# Altium footprint library KN2CLib.PcbLib: 180 footprints (part 7 of 12)
Each footprint in its own frame and in the unit in brackets; x right, y up, seen from the top. Pads: shape width x height; smd on the part's side, far side on the other; paste and mask are expansions set on the pad; w line width, h text height; cw(c..) or ccw(c..) is an arc to the next point about the centre after c.
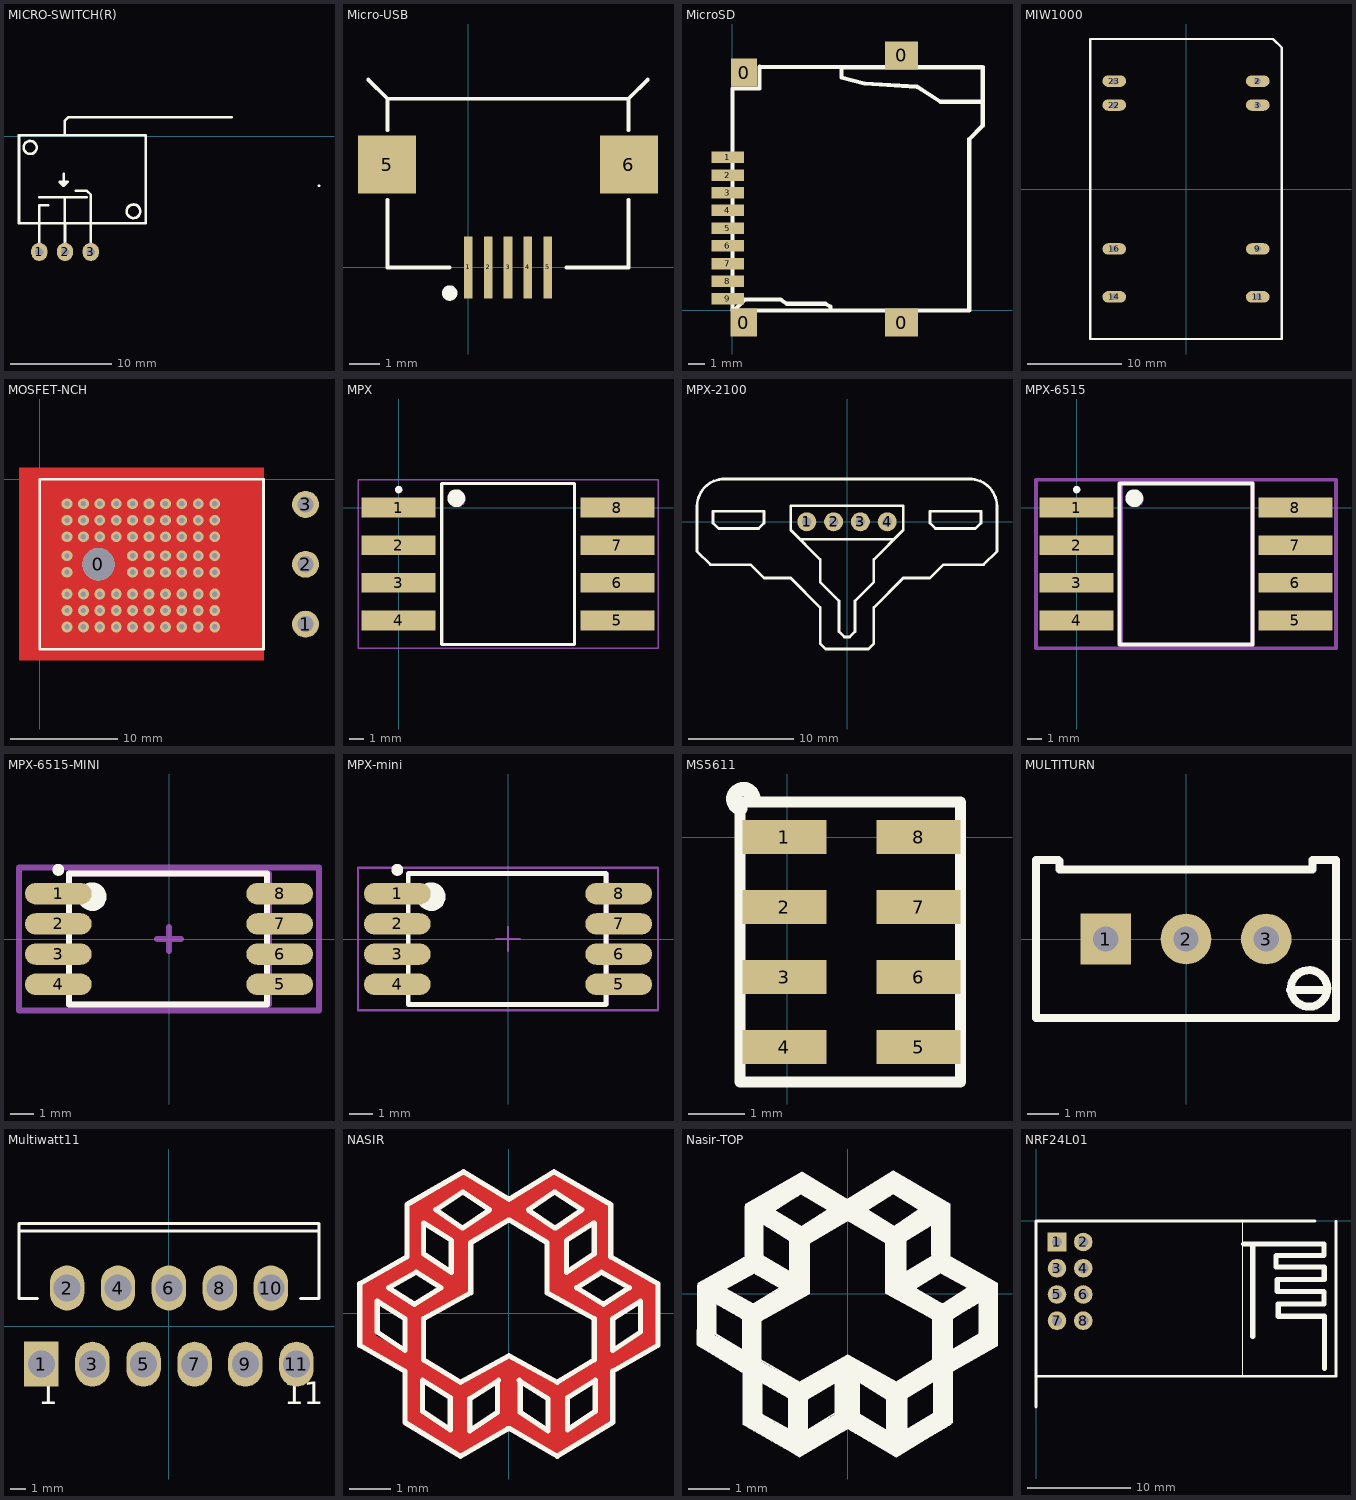
[diagram p6: the footprints below, top view; thin cyan lines are the x and y axes]

## MICRO-SWITCH(R) [mm]
pads (3):
  oval 1.6x1.8 hole 0.8: 1(-53.1,-11.4) 2(-50.56,-11.4) 3(-48.02,-11.4)
Top Layer:
  lines w0.254: -55.1,0.1 -55.1,0.1
Top Overlay:
  circle w0.254: c-43.8,-7.4 r0.671
  circle w0.254: c-54,-1.1 r0.64
  lines w0.254: -53.1,-11.4 -53.1,-8.6 -53.1,-8.2 -53.1,-6.8 -52.2,-6.8 ; -53.1,-6 -50.5,-6 ; -50.7,-3.7 -50.7,-4.9 ; -50.6,-8.6 -50.6,-7.8 -50.6,-6.1 -50.5,-6 ; -50.6,0.1 -50.6,1.5 -50.2,1.9 -34.1,1.9 ; -50.56,-11.4 -50.56,-8.76 ; -49.5,-5.38 -48.4,-5.38 -48.02,-5.76 -48.02,-8.62 -48.02,-11.4 ; -48.4,-6 -50.5,-6 ; -50.7,-4.9 -50.7,-4.9 ; -50.7,-4.9 -51.1,-4.5 -50.3,-4.5 -50.7,-4.9 ; -55.1,-8.6 -55.1,0.1 -42.6,0.1 -42.6,-8.6 -55.1,-8.6 ; -25.5,-4.9 -25.5,-4.9

## Micro-USB [mm]
pads (7):
  rect 0.279x2.032 smd: 1(0,0) 2(0.65,0) 3(1.3,0) 4(1.95,0) 5(2.6,0)
  rect 1.9x1.9 smd: 5(-2.65,3.358) 6(5.25,3.358)
Top Overlay:
  circle w0.25: c-0.605,-0.84 r0.125
  lines w0.127: -3.267,6.138 -2.637,5.508 -2.637,4.492 ; -2.637,0 -2.637,2.206 ; -2.6,0 -0.605,0 ; -2.6,5.508 5.2,5.508 ; 3.205,0 5.2,0 ; 5.237,0 5.237,2.206 ; 5.237,4.492 5.237,5.508 5.867,6.138

## MicroSD [mm]
pads (13):
  rect 1.6x1.7 smd: 0(0.686,-0.737) 0(0.711,14.453)
  rect 2x1.7 smd: 0(10.287,-0.737) 0(10.287,15.494)
  rect 2x0.7 smd: 1(-0.279,9.3) 2(-0.279,8.225) 3(-0.279,7.15) 4(-0.279,6.075) 5(-0.279,5) 6(-0.279,3.925) 7(-0.279,2.85) 8(-0.279,1.775) 9(-0.279,0.7)
Top Overlay:
  lines w0.254: 0,0 14.402,0 14.402,10.414 15.215,11.227 15.215,14.783 ; 0,0.002 0,13.487 1.651,13.487 1.651,14.808 ; 0.102,0.002 0.762,0.663 2.946,0.663 3.302,0.409 5.664,0.409 5.969,0.231 5.969,0.002 ; 1.651,14.8 15.2,14.8 ; 15.113,14.76 6.629,14.76 6.629,14.455 6.629,14.15 8.026,13.795 11.227,13.591 12.649,12.677 15.215,12.677
3D body: height 0.3, standoff 0, extent 0,-0.051 15.291,14.808

## MIW1000 [mm]
pads (8):
  oval 2.5x1.2 hole 0.7: 2(7.61,11.43) 3(7.61,8.89) 9(7.61,-6.35) 11(7.61,-11.43) 14(-7.61,-11.43) 16(-7.61,-6.35) 22(-7.61,8.89) 23(-7.61,11.43)
Top Overlay:
  lines w0.254: -10.15,-15.9 10.15,-15.9 10.15,14.983 9.233,15.9 -10.15,15.9 -10.15,-15.9
3D body: height 4, standoff 0, extent -10.1,-15.975 10.1,15.8

## MOSFET-NCH [mm]
pads (4):
  round 3 hole 3: 0(5.46,-7.9)
  round 2.5 hole 1.5: 1(24.7,-13.46) 2(24.7,-7.9) 3(24.7,-2.34)
via 2.54,-8.636 diameter 1 hole 0.5
via 2.54,-7.112 diameter 1 hole 0.5
via 14.732,-10.668 diameter 1 hole 0.5
via 16.256,-10.668 diameter 1 hole 0.5
via 8.636,-10.668 diameter 1 hole 0.5
via 10.16,-10.668 diameter 1 hole 0.5
via 13.208,-10.668 diameter 1 hole 0.5
via 11.684,-10.668 diameter 1 hole 0.5
via 5.588,-10.668 diameter 1 hole 0.5
via 7.112,-10.668 diameter 1 hole 0.5
via 4.064,-10.668 diameter 1 hole 0.5
via 2.54,-10.668 diameter 1 hole 0.5
via 14.732,-12.192 diameter 1 hole 0.5
via 16.256,-12.192 diameter 1 hole 0.5
via 8.636,-12.192 diameter 1 hole 0.5
via 10.16,-12.192 diameter 1 hole 0.5
via 13.208,-12.192 diameter 1 hole 0.5
via 11.684,-12.192 diameter 1 hole 0.5
via 5.588,-12.192 diameter 1 hole 0.5
via 7.112,-12.192 diameter 1 hole 0.5
via 4.064,-12.192 diameter 1 hole 0.5
via 2.54,-12.192 diameter 1 hole 0.5
via 14.732,-13.716 diameter 1 hole 0.5
via 16.256,-13.716 diameter 1 hole 0.5
via 8.636,-13.716 diameter 1 hole 0.5
via 10.16,-13.716 diameter 1 hole 0.5
via 13.208,-13.716 diameter 1 hole 0.5
via 11.684,-13.716 diameter 1 hole 0.5
via 5.588,-13.716 diameter 1 hole 0.5
via 7.112,-13.716 diameter 1 hole 0.5
via 4.064,-13.716 diameter 1 hole 0.5
via 2.54,-13.716 diameter 1 hole 0.5
via 2.54,-5.334 diameter 1 hole 0.5
via 4.064,-5.334 diameter 1 hole 0.5
via 7.112,-5.334 diameter 1 hole 0.5
via 5.588,-5.334 diameter 1 hole 0.5
via 11.684,-5.334 diameter 1 hole 0.5
via 13.208,-5.334 diameter 1 hole 0.5
via 10.16,-5.334 diameter 1 hole 0.5
via 8.636,-5.334 diameter 1 hole 0.5
via 16.256,-5.334 diameter 1 hole 0.5
via 14.732,-5.334 diameter 1 hole 0.5
via 2.54,-3.81 diameter 1 hole 0.5
via 4.064,-3.81 diameter 1 hole 0.5
via 7.112,-3.81 diameter 1 hole 0.5
via 5.588,-3.81 diameter 1 hole 0.5
via 11.684,-3.81 diameter 1 hole 0.5
via 13.208,-3.81 diameter 1 hole 0.5
via 10.16,-3.81 diameter 1 hole 0.5
via 8.636,-3.81 diameter 1 hole 0.5
via 16.256,-3.81 diameter 1 hole 0.5
via 14.732,-3.81 diameter 1 hole 0.5
via 2.54,-2.286 diameter 1 hole 0.5
via 4.064,-2.286 diameter 1 hole 0.5
via 7.112,-2.286 diameter 1 hole 0.5
via 5.588,-2.286 diameter 1 hole 0.5
via 11.684,-2.286 diameter 1 hole 0.5
via 13.208,-2.286 diameter 1 hole 0.5
via 10.16,-2.286 diameter 1 hole 0.5
via 8.636,-2.286 diameter 1 hole 0.5
via 16.256,-2.286 diameter 1 hole 0.5
via 14.732,-2.286 diameter 1 hole 0.5
via 14.732,-7.112 diameter 1 hole 0.5
via 16.256,-7.112 diameter 1 hole 0.5
via 8.636,-7.112 diameter 1 hole 0.5
via 10.16,-7.112 diameter 1 hole 0.5
via 13.208,-7.112 diameter 1 hole 0.5
via 11.684,-7.112 diameter 1 hole 0.5
via 14.732,-8.636 diameter 1 hole 0.5
via 16.256,-8.636 diameter 1 hole 0.5
via 8.636,-8.636 diameter 1 hole 0.5
via 10.16,-8.636 diameter 1 hole 0.5
via 13.208,-8.636 diameter 1 hole 0.5
via 11.684,-8.636 diameter 1 hole 0.5
Top Layer:
  rectangle: 1.27,-14.732 18.034,-1.27
  pour cut-out: 20.795,1.044 -1.915,1.044 -1.915,-16.792 20.81,-16.792 20.81,1.029
Bottom Layer:
  rectangle: 1.27,-14.732 18.034,-1.27
  pour cut-out: 0.003,-0.003 19.632,-0.003 19.632,-15.824 0,-15.824 0,-0.005
Top Overlay:
  lines w0.254: 0,-15.8 20.8,-15.8 20.8,0 0,0 0,-15.8
3D body: height 4.82, standoff 0.24, extent 0,-15.748 20.828,0

## MPX [mm] "SOP, 8-Leads, Body 10.9x10.9mm (max), Pitch 2.54mm, IPC Medium Density"
height 2.65
pads (8):
  rect 5x1.35 smd: 1(0,0) 2(0,-2.54) 3(0,-5.08) 4(0,-7.62) 5(14.8,-7.62) 6(14.8,-5.08) 7(14.8,-2.54) 8(14.8,0)
Top Overlay:
  circle w0.6: c3.9,0.64 r0.3
  circle w0.25: c0,1.225 r0.125
  lines w0.2: 2.9,-9.26 11.9,-9.26 11.9,1.64 2.9,1.64 2.9,-9.26
Mechanical 13:
  circle w0.1: c4.004,0.61 r0.5
  lines w0.1: 3.006,-9.27 11.896,-9.27 11.896,1.65 3.006,1.65 3.006,-9.27
Mechanical 15:
  lines w0.1: -2.75,-9.51 17.55,-9.51 17.55,1.89 -2.75,1.89 -2.75,-9.51
3D body: height 4.06, standoff 2.56, extent 4.445,-6.756 10.82,-0.369
3D body: height 5, standoff 0, extent 5.11,-6.045 10.084,-1.067
3D body: height 2.65, standoff 0.1, extent 2.879,-9.271 11.87,1.651

## MPX-2100 [mm]
pads (4):
  round 1.8 hole 0.9: 1(-3.81,0) 2(-1.27,0) 3(1.27,0) 4(3.81,0)
Top Overlay:
  lines w0.254: -11.684,4.064 11.557,4.064 cw(c11.62,1.46) 14.224,1.524 14.224,-2.794 ; -11.557,4.064 ccw(c-11.62,1.46) -14.224,1.524 -14.224,-2.794 -12.954,-4.064 -9.144,-4.064 -7.874,-5.334 -5.334,-5.334 -2.54,-8.128 -2.54,-11.557 -2.032,-12.065 0,-12.065 2.032,-12.065 2.54,-11.557 2.54,-8.128 5.334,-5.334 7.874,-5.334 9.144,-4.064 12.954,-4.064 ; -7.874,1.016 -7.874,-0.127 -8.382,-0.635 -12.192,-0.635 -12.7,-0.127 -12.7,1.016 ; -4.445,-1.651 4.445,-1.651 ; 7.874,1.016 7.874,-0.127 8.382,-0.635 12.192,-0.635 12.7,-0.127 12.7,1.016 ; -12.7,1.016 -8.001,1.016 -12.7,1.016 ; 12.7,1.016 8.001,1.016 12.7,1.016 ; 12.954,-4.064 14.224,-2.794 ; 12.954,-4.064 14.224,-2.794 ; -5.334,-0.762 -2.54,-3.556 -2.54,-5.715 -0.762,-7.493 -0.762,-10.414 -0.254,-10.922 0.254,-10.922 0.762,-10.414 0.762,-7.493 2.54,-5.715 2.54,-3.556 5.334,-0.762 5.334,1.524 -5.334,1.524 -5.334,-0.762

## MPX-6515 [mm] "SOP, 8-Leads, Body 10.9x10.9mm (max), Pitch 2.54mm, IPC Medium Density"
height 2.65
pads (8):
  rect 5x1.35 smd: 1(0,0) 2(0,-2.54) 3(0,-5.08) 4(0,-7.62) 5(14.8,-7.62) 6(14.8,-5.08) 7(14.8,-2.54) 8(14.8,0)
Top Overlay:
  circle w0.25: c0,1.225 r0.125
  circle w0.6: c3.9,0.64 r0.3
  lines w0.254: 2.9,-9.26 2.9,1.64 11.9,1.64 11.9,-9.26 2.9,-9.26
Mechanical 13:
  circle w0.1: c4.004,0.61 r0.5
  lines w0.254: 3.006,-9.27 3.006,1.65 11.896,1.65 11.896,-9.27 3.006,-9.27
Mechanical 15:
  lines w0.254: -2.75,-9.51 -2.75,1.89 17.55,1.89 17.55,-9.51 -2.75,-9.51
3D body: height 5, standoff 0, extent 5.11,-6.045 10.084,-1.067
3D body: height 4.06, standoff 2.56, extent 4.445,-6.756 10.82,-0.369
3D body: height 2.65, standoff 0.1, extent 2.879,-9.271 11.87,1.651

## MPX-6515-MINI [mm]
height 2.65
pads (8):
  oval 2.8x0.9 smd: 1(-4.65,1.905) 2(-4.65,0.635) 3(-4.65,-0.635) 4(-4.65,-1.905) 5(4.65,-1.905) 6(4.65,-0.635) 7(4.65,0.635) 8(4.65,1.905)
Top Overlay:
  circle w0.6: c-3.221,1.778 r0.3
  circle w0.25: c-4.65,2.905 r0.125
  lines w0.254: -4.191,-2.75 4.12,-2.75 4.12,2.75 -4.191,2.75 -4.191,-2.75
Mechanical 13:
  circle w0.1: c-3.25,1.8 r0.5
  lines w0.254: -4.2,-2.75 4.191,-2.75 4.191,2.75 -4.2,2.75 -4.2,-2.75
Mechanical 15:
  lines w0.254: -0.5,0 0.5,0 ; 0,-0.5 0,0.5 ; -6.3,-3 6.3,-3 6.3,3 -6.3,3 -6.3,-3
3D body: height 3.5, standoff 2, extent -2.458,-2.695 2.921,2.695
3D body: height 5, standoff 1, extent -1.82,-1.991 2.159,1.991
3D body: height 2, standoff 0.1, extent -4.2,-2.75 4.2,2.75

## MPX-mini [mm]
height 2.65
pads (8):
  oval 2.8x0.9 smd: 1(-4.65,1.905) 2(-4.65,0.635) 3(-4.65,-0.635) 4(-4.65,-1.905) 5(4.65,-1.905) 6(4.65,-0.635) 7(4.65,0.635) 8(4.65,1.905)
Top Overlay:
  circle w0.25: c-4.65,2.905 r0.125
  circle w0.6: c-3.221,1.778 r0.3
  lines w0.2: -4.191,-2.75 -4.191,2.75 4.12,2.75 4.12,-2.75 -4.191,-2.75
Mechanical 13:
  circle w0.1: c-3.25,1.8 r0.5
  lines w0.1: -4.2,-2.75 -4.2,2.75 4.191,2.75 4.191,-2.75 -4.2,-2.75
Mechanical 15:
  lines w0.1: -0.5,0 0.5,0 ; 0,-0.5 0,0.5 ; -6.3,-3 -6.3,3 6.3,3 6.3,-3 -6.3,-3
3D body: height 5, standoff 1, extent -1.82,-1.991 2.159,1.991
3D body: height 3.5, standoff 2, extent -2.458,-2.695 2.921,2.695
3D body: height 2, standoff 0.1, extent -4.2,-2.75 4.2,2.75

## MS5611 [mm]
pads (8):
  rect 1.5x0.6 smd: 1(-0.051,0) 2(-0.051,-1.25) 3(-0.051,-2.5) 4(-0.051,-3.75) 5(2.351,-3.75) 6(2.351,-2.5) 7(2.351,-1.25) 8(2.351,0)
Top Overlay:
  lines w0.2: 0.838,0.625 3.098,0.625 3.098,-4.375 -0.839,-4.375 -0.839,0.625 1.462,0.625
  lines w0.254: -0.839,0.508 cw(c-0.782,0.678) -0.603,0.678
3D body: height 1, standoff 0.2, extent -0.509,-4.039 2.793,0.33
3D body: height 0.2, standoff 0, extent -0.737,-4.267 2.971,0.533

## MULTITURN [mm]
pads (3):
  rect 1.6x1.6 hole 0.8: 1(-2.54,0)
  round 1.6 hole 0.8: 2(0,0) 3(2.54,0)
Top Overlay:
  circle w0.254: c3.895,-1.565 r0.578
  lines w0.254: -4.036,2.5 -4.75,2.5 -4.75,-2.5 4.75,-2.5 4.75,2.5 4,2.5 ; -4,2.464 -4,2.2 4,2.2 4,2.493 ; 3.289,-1.615 4.422,-1.615
3D body: height 4, standoff 0, extent -4.775,-2.5 4.725,2.525

## Multiwatt11 [mm] "TO, Thru-Hole, Vertical, Heatsink Mounted; 11 Bent Staggered Leads; Pitch 1.7 mm"
height 21
pads (11):
  rect 2.3x3 hole 1.8: 1(-8.5,-2.54)
  oval 2.3x3 hole 1.8: 2(-6.8,2.54) 3(-5.1,-2.54) 4(-3.4,2.54) 5(-1.7,-2.54) 6(0,2.54) 7(1.7,-2.54) 8(3.4,2.54) 9(5.1,-2.54) 10(6.8,2.54) 11(8.5,-2.54)
Top Overlay:
  lines w0.2: -10,6.33 9.9,6.33 ; -8.754,1.83 -10,1.83 -10,6.83 10,6.83 10,1.83 8.774,1.83
  text "1" at -8.73,-5.215 h1.5
  text "11" at 7.67,-5.215 h1.5
3D body: height 4, standoff 0, extent -10,-0.225 10,6.85

## NASIR [mm]
Top Layer:
  drawing of 2506 lines, arcs and shapes, not listed
Top Overlay:
  lines w0.127: -2.475,2.625 -2.475,1.375 -3.625,0.725 -3.625,-0.775 ; -2.475,2.65 -1.1,3.45 0,2.775 1.1,3.45 2.475,2.65 ; -1.125,2.95 -1.775,2.525 -1.125,2.075 -0.476,2.513 ; -1.1,2.95 -0.475,2.525 ; -0.025,-2.8 -1.175,-3.475 -2.525,-2.65 -2.525,-1.4 ; 0.025,-2.8 1.175,-3.475 2.525,-2.65 2.525,-1.4 ; 0.475,2.525 1.1,2.95 ; 0.476,2.513 1.125,2.075 1.775,2.525 1.125,2.95 ; 2.475,2.625 2.475,1.375 3.625,0.725 3.625,-0.775 ; -3.625,-0.775 -2.525,-1.4 ; -3.625,-0.775 -2.525,-1.4 ; 2.525,-1.4 3.625,-0.775 ; 2.525,-1.4 3.625,-0.775 ; -3.2,-0.45 -2.525,-0.9 -2.525,-0.125 -3.2,0.3 -3.2,-0.45 ; -2.925,0.625 -2.3,0.225 -1.65,0.625 -2.25,1 -2.925,0.625 ; -2.1,-2.375 -1.425,-2.825 -1.425,-2.05 -2.1,-1.625 -2.1,-2.375 ; -2.075,-1.125 -1.175,-1.675 0,-1.025 1.175,-1.675 2.075,-1.125 2.075,-0.125 0.925,0.5 0.925,1.725 0,2.275 -0.925,1.725 -0.925,0.5 -2.075,-0.125 -2.075,-1.125 ; -2.075,1.45 -2.075,2.2 -1.4,1.775 -1.4,1 -2.075,1.45 ; -0.95,-2.85 -0.95,-2.075 -0.275,-1.65 -0.275,-2.4 -0.95,-2.85 ; -0.25,-1.625 -0.25,-1.625 ; 0.25,-1.625 0.25,-1.625 ; 0.275,-2.4 0.95,-2.85 0.95,-2.075 0.275,-1.65 0.275,-2.4 ; 1.4,1 2.075,1.45 2.075,2.2 1.4,1.775 1.4,1 ; 1.425,-2.825 1.425,-2.05 2.1,-1.625 2.1,-2.375 1.425,-2.825 ; 1.65,0.625 2.3,0.225 2.925,0.625 2.25,1 1.65,0.625 ; 2.525,-0.9 2.525,-0.125 3.2,0.3 3.2,-0.45 2.525,-0.9
Top Solder:
  drawing of 2505 lines, arcs and shapes, not listed

## Nasir-TOP [mm]
Top Overlay:
  drawing of 2589 lines, arcs and shapes, not listed

## NRF24L01 [mm]
pads (8):
  rect 1.8x1.8 hole 1: 1(2.032,-2.032)
  round 1.8 hole 1: 2(4.572,-2.032) 3(2.032,-4.572) 4(4.572,-4.572) 5(2.032,-7.112) 6(4.572,-7.112) 7(2.032,-9.652) 8(4.572,-9.652)
Top Overlay:
  lines w0.1: 20.032,-15.032 20.032,-0.032
  lines w0.254: 0,-18 0,0 27,0 ; 0.032,-15.032 29.032,-15.032 29.032,-0.032
  lines w0.5: 20.066,-2.235 27.864,-2.235 27.864,-3.327 23.241,-3.327 23.241,-4.445 27.889,-4.445 27.889,-5.664 23.343,-5.664 23.343,-6.833 27.864,-6.833 27.864,-8.026 23.444,-8.026 23.444,-9.22 27.915,-9.22 27.915,-14.275 ; 20.98,-11.151 20.98,-2.388